# EAGLE library part M05X2 (library AIC_Custom)
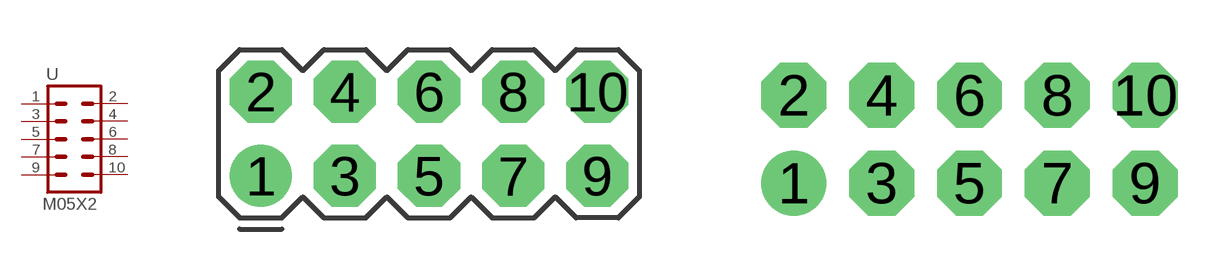
[diagram p15: symbol with the pads of 2X5_TOP; footprints 2X5_TOP, 2X5_BOTTOM]

Designator prefix -

## M05X2TOP  [2X5_TOP]
1  1  pas
2  2  pas
3  3  pas
4  4  pas
5  5  pas
6  6  pas
7  7  pas
8  8  pas
9  9  pas
10  10  pas

## M05X2BOTTOM  [2X5_BOTTOM]
Pads as for 2X5_TOP

## Footprint 2X5_TOP (pad centres in mm)
Header 2x5 with pin 1 marked, top mounting
drill 1.016 pad 1.88: 1 -5.08,-1.27
drill 1.016 pad 1.88 octagon: 2 -5.08,1.27; 3 -2.54,-1.27; 4 -2.54,1.27; 5 0,-1.27; 6 0,1.27; 7 2.54,-1.27; 8 2.54,1.27; 9 5.08,-1.27; 10 5.08,1.27

## Footprint 2X5_BOTTOM (pad centres in mm)
Header 2x5 with pin 1 marked, bottom mounting
drill 1.016 pad 1.88: 1 -5.08,-1.27
drill 1.016 pad 1.88 octagon: 2 -5.08,1.27; 3 -2.54,-1.27; 4 -2.54,1.27; 5 0,-1.27; 6 0,1.27; 7 2.54,-1.27; 8 2.54,1.27; 9 5.08,-1.27; 10 5.08,1.27